# EAGLE library part MMA7260Q (library zz-m-pad-2.1)
Freescale Semiconductor's MMA7260Q ±1.5g - 6g Three Axis Low-g Micromachined Accelerometer Description: The MMA7260Q low cost capacitive micromachined accelerometer features signal conditioning, a 1-pole low pass filter, temperature compensation and g-Select which allows for the selection among 4 sensitivities. Zero-g offset full scale span and filter cut-off are factory set and require no external devices. Includes a Sleep Mode that makes it ideal for handheld battery powered electronics. Features: Selectable Sensitivity (1.5g/2g/4g/6g) Low Current Consumption: 500 µA Sleep Mode: 3 µA Low Voltage Operation: 2.2 V  3.6 V 6mm x 6mm x 1.45mm QFN High Sensitivity (800 mV/g @1.5 g) Fast Turn On Time High Sensitivity (1.5 g) Integral Signal Conditioning with Low Pass Filter Robust Design, High Shocks Survivability Pb-Free Terminations Environmentally Preferred Package Low Cost Typical Applications: HDD MP3 Player : Freefall Detection Laptop PC : Freefall Detection, Anti-Theft Cell Phone : Image Stability, Text Scroll, Motion Dialing, E-Compass Pedometer : Motion Sensing PDA : Text Scroll Navigation and Dead Reckoning : E-Compass Tilt Compensation Gaming : Tilt and Motion Sensing, Event Recorder Robotics : Motion Sensing Please send any comments to: messi@users.sourceforge.net
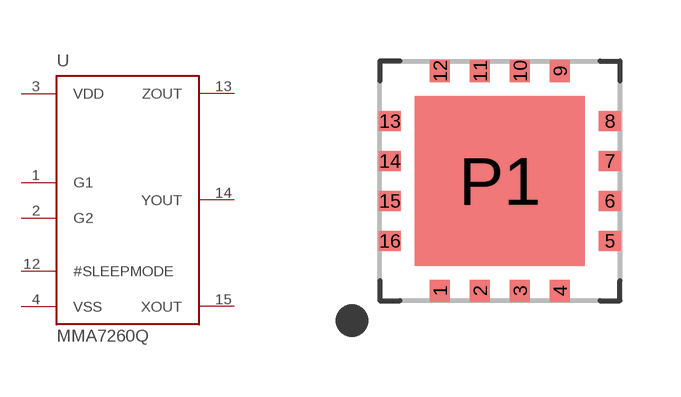
[diagram p90: symbol with the pads of QFN-16; footprint QFN-16]

Designator prefix U

## MMA7260Q  [QFN-16]
1  G1  in
2  G2  in
3  VDD  pwr
4  VSS  pwr
12  #SLEEPMODE  in
13  ZOUT  out
14  YOUT  out
15  XOUT  out

## Footprint QFN-16 (pad centres in mm)
16 LEAD QFN CASE 1622-01 E.g. MMA7260Q
smd 0.5 x 0.55: 1 -1.5,-2.75; 2 -0.5,-2.75; 3 0.5,-2.75; 4 1.5,-2.75; 9 1.5,2.75; 10 0.5,2.75; 11 -0.5,2.75; 12 -1.5,2.75
smd 0.55 x 0.5: 5 2.75,-1.5; 6 2.75,-0.5; 7 2.75,0.5; 8 2.75,1.5; 13 -2.75,1.5; 14 -2.75,0.5; 15 -2.75,-0.5; 16 -2.75,-1.5
smd 4.25 x 4.25: P1 0,0